# Altium schematic symbol library LM5160DNTT.SchLib: 1 symbol
Pins are listed as number, name and electrical type; pins without a type are passive.

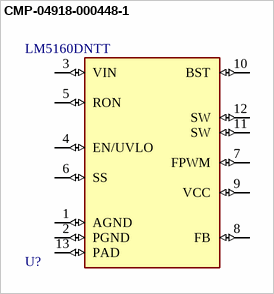
[diagram p0: symbol CMP-04918-000448-1]

## CMP-04918-000448-1
designator U?, comment LM5160DNTT
LM5160 wide input 65V, 2A synchronous buck/Fly-Buck converter 12-WSON -40 to 125; Min Input Voltage: 4.5V; Operating Supply Current: 2.3mA; Output Current: 1.5A; Number of Outputs: 1; Topology: Flyback; Synchronous Rectifier: Yes; Output Type: Adjustable; Min Output Voltage: 2V; Switching Frequency: 1MHz; Output Voltage: 60V; Mount: Surface Mount; Min Operating Temperature: -40°C; Package Quantity: 250; Min Supply Voltage: 4.5V; Max Operating Temperature: 125°C; RoHS Compliant: Yes; Contact Plating: Tin; Height: 0.8mm; Packaging: Tape and Reel; Quiescent Current: 2.3mA; Lead Free: Lead Free; Number of Pins: 12; Max Input Voltage: 65V; Max Output Current: 1.5A; REACH SVHC: No SVHC; Width: 4mm; Operating Supply Voltage: 65V; Max Output Voltage: 60V; Length: 4mm
footprint FP-DNT0012B-IPC_B
footprint FP-DNT0012B-MFG
footprint FP-DNT0012B-IPC_A
footprint FP-DNT0012B-IPC_C
footprint FP-DNT0012B-IPC_A
footprint FP-DNT0012B-IPC_A
footprint FP-DNT0012B-IPC_A
footprint FP-DNT0012B-IPC_A
footprint FP-DNT0012B-IPC_C
footprint FP-DNT0012B-IPC_A
footprint FP-DNT0012B-MFG
pins: 1 AGND (io), 2 PGND (io), 3 VIN (io), 4 EN/UVLO (io), 5 RON (io), 6 SS (io), 7 FPWM (io), 8 FB (io), 9 VCC (io), 10 BST (io), 11 SW (io), 12 SW (io), 13 PAD (io)